# Altium footprint library Footprints.PcbLib: 26 footprints (part 1 of 2)
Each footprint in its own frame and in the unit in brackets; x right, y up, seen from the top. Pads: shape width x height; smd on the part's side, far side on the other; paste and mask are expansions set on the pad; w line width, h text height; cw(c..) or ccw(c..) is an arc to the next point about the centre after c.
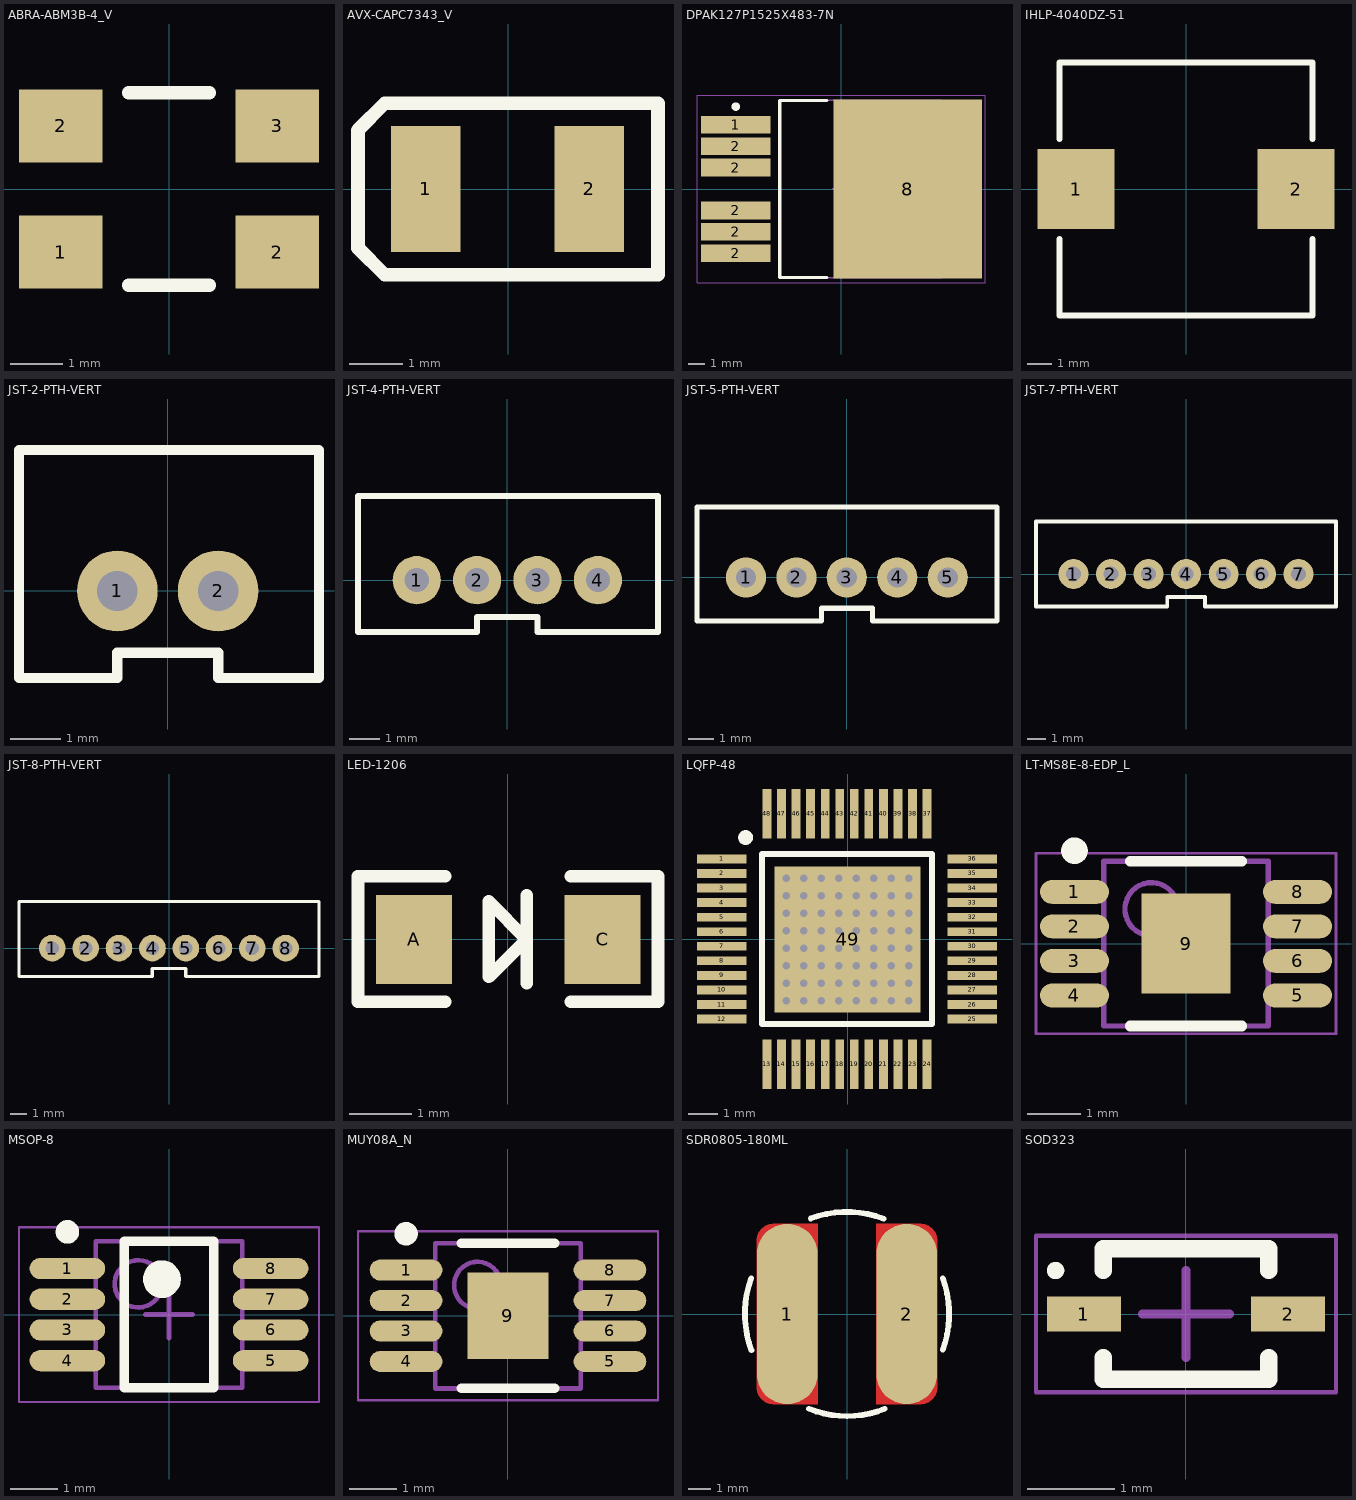
[diagram p0: the footprints below, top view; thin cyan lines are the x and y axes]

## ABRA-ABM3B-4_V [mil] "SMT Crystal, 4-Leads, Body 5.2x3.4mm"
pads (4):
  rect 63x55 smd: 1(-81.5,-47.5) 2(-81.5,47.5) 2(81.5,-47.5) 3(81.5,47.5)
Top Overlay:
  lines w10: -30.5,-72.5 30.5,-72.5 ; -30.5,72.5 30.5,72.5
3D body: height 39.37, standoff 0, extent -114.46,-46.87 113.11,46.73
3D body: height 19.68, standoff 0, extent -97.83,24.91 -62.28,51.12
3D body: height 19.68, standoff 0, extent 67.17,24.91 102.72,51.12
3D body: height 19.68, standoff 0, extent -103.01,-51.67 -67.46,-25.46
3D body: height 19.68, standoff 0, extent 62.19,-52.22 97.74,-26.01

## AVX-CAPC7343_V [mm] "SMT Capacitor, 2 Leads, Body 7.3x4.3mm"
pads (2):
  rect 1.3x2.35 smd: 1(-1.535,0.001) 2(1.515,0.001)
Top Overlay:
  lines w0.254: -2.8,-1.1 -2.8,1.1 -2.299,1.601 2.8,1.597 2.8,-1.6 -2.3,-1.6 -2.8,-1.1
3D body: height 1.9, standoff 0, extent -2.1,-1.1 2.1,1.1

## DPAK127P1525X483-7N [mm] "D2-PAK, 7-Pads, Body 7.93x8.63mm (max), IPC Medium Density"
height 4.83
pads (7):
  rect 4.15x1.05 smd mask+0.051: 1(-6.25,3.81) 2(-6.25,-3.81) 2(-6.25,-2.54) 2(-6.25,-1.27) 2(-6.25,1.27) 2(-6.25,2.54)
  rect 8.8x10.6 smd: 8(3.95,0)
Top Overlay:
  circle w0.25: c-6.25,4.885 r0.125
  lines w0.2: -0.85,-5.25 -3.65,-5.25 -3.65,5.25 -0.85,5.25
Mechanical 13:
  lines w0.1: -3.65,-5.275 -3.65,5.275 6,5.275 6,-5.275 -3.65,-5.275
Mechanical 15:
  lines w0.05: -8.55,-5.55 -8.55,5.55 8.55,5.55 8.55,-5.55 -8.55,-5.55
  lines w0.1: -0.5,0 0.5,0 ; 0,-0.5 0,0.5
3D body: height 4.2, standoff 0, extent -7.004,-5 8,5

## IHLP-4040DZ-51 [mil]
pads (2):
  rect 123x128 smd: 1(-176,0) 2(176,0)
Top Overlay:
  lines w10: -202.5,-80 -202.5,-202.5 202.5,-202.5 202.5,-80 ; -202.5,80 -202.5,202.5 202.5,202.5 202.5,80
3D body: height 157.48, standoff 0, extent -200,-200 200,200

## JST-2-PTH-VERT [mm]
pads (2):
  round 1.6 hole 0.8: 1(-1,0) 2(1,0)
Top Overlay:
  lines w0.203: -2.95,-1.723 -2.95,2.794 3,2.794 3,-1.723 1,-1.723 1,-1.223 -1,-1.223 -1,-1.723 -2.95,-1.723
3D body: height 6, standoff -3.4, extent -2.892,-1.622 3.008,2.878

## JST-4-PTH-VERT [mil]
pads (4):
  round 63 hole 31.5: 1(-118.11,0) 2(-39.37,0) 3(39.37,0) 4(118.37,0)
Top Overlay:
  lines w8: -194.88,-67.84 -194.88,110 196.85,110 196.85,-67.84 39.37,-67.84 39.37,-48.16 -39.37,-48.16 -39.37,-67.84 -194.88,-67.84
3D body: height 236.22, standoff -133.86, extent -194.88,-66.93 194.88,110.24

## JST-5-PTH-VERT [mil]
pads (5):
  round 63 hole 31.5: 1(-157.48,0) 2(-78.74,0) 3(0,0) 4(79,0) 5(158,0)
Top Overlay:
  lines w8: -234.25,-67.84 -39.37,-67.84 -39.37,-48.16 40,-48.16 40,-67.84 235,-67.84 235,110 -234.25,110 -234.25,-67.84
3D body: height 236.22, standoff -133.86, extent -236.22,-68.9 232.28,108.27

## JST-7-PTH-VERT [mil]
pads (7):
  round 63 hole 31.5: 1(-236.22,0) 2(-157.48,0) 3(-78.74,0) 4(0.26,0) 5(79.26,0) 6(157.48,0) 7(236.22,0)
Top Overlay:
  lines w8: -314.96,-67.84 -39.37,-67.84 -39.37,-48.16 40,-48.16 40,-67.84 314.96,-67.84 314.96,110 -314.96,110 -314.96,-67.84
3D body: height 236.22, standoff -133.86, extent -316.93,-66.93 309.06,110.24

## JST-8-PTH-VERT [mil]
pads (8):
  round 63 hole 31.5: 1(-275.59,0) 2(-196.85,0) 3(-118.11,0) 4(-39.11,0) 5(39.89,0) 6(118.11,0) 7(196.85,0) 8(275.59,0)
Top Overlay:
  lines w8: -354.33,-66.93 -354.33,110 354.33,110 354.33,-66.93 39.37,-66.93 39.37,-48.16 -39.37,-48.16 -39.37,-66.93 -354.33,-66.93
3D body: height 236.22, standoff -133.86, extent -352.36,-67.16 352.36,110

## LED-1206 [mil]
pads (2):
  rect 48x56 smd: A(-59.06,0) C(60,0)
Top Overlay:
  lines w8: -39.37,-39.37 -94.49,-39.37 -94.49,40 -39.37,40 ; 12,-27.56 12,0 ; 12,28 12,0 ; 40,-39.37 95,-39.37 95,40 40,40 ; 12,0 -11.81,-23.62 -11.81,24 12,0
3D body: height 43.31, standoff -0.39, extent -62.99,-31.5 62.99,31.49

## LQFP-48 [mm]
pads (49):
  rect 1.7x0.3 smd mask+0.076: 1(-4.318,2.767) 2(-4.318,2.267) 3(-4.318,1.767) 4(-4.318,1.267) 5(-4.318,0.767) 6(-4.318,0.267) 7(-4.318,-0.233) 8(-4.318,-0.733) 9(-4.318,-1.233) 10(-4.318,-1.733) 11(-4.318,-2.233) 12(-4.318,-2.733) 25(4.282,-2.733) 26(4.282,-2.233) 27(4.282,-1.733) 28(4.282,-1.233) 29(4.282,-0.733) 30(4.282,-0.233) 31(4.282,0.267) 32(4.282,0.767) 33(4.282,1.267) 34(4.282,1.767) 35(4.282,2.267) 36(4.282,2.767)
  rect 0.3x1.7 smd mask+0.076: 13(-2.768,-4.283) 14(-2.268,-4.283) 15(-1.768,-4.283) 16(-1.268,-4.283) 17(-0.768,-4.283) 18(-0.268,-4.283) 19(0.232,-4.283) 20(0.732,-4.283) 21(1.232,-4.283) 22(1.732,-4.283) 23(2.232,-4.283) 24(2.732,-4.283) 37(2.732,4.317) 38(2.232,4.317) 39(1.732,4.317) 40(1.232,4.317) 41(0.732,4.317) 42(0.232,4.317) 43(-0.268,4.317) 44(-0.768,4.317) 45(-1.268,4.317) 46(-1.768,4.317) 47(-2.268,4.317) 48(-2.768,4.317)
  rect 5x5 smd: 49(0,0)
via -2.1,-2.1 diameter 0.508 hole 0.254
via -1.5,-2.1 diameter 0.508 hole 0.254
via -0.9,-2.1 diameter 0.508 hole 0.254
via -0.3,-2.1 diameter 0.508 hole 0.254
via 0.3,-2.1 diameter 0.508 hole 0.254
via 0.9,-2.1 diameter 0.508 hole 0.254
via 1.5,-2.1 diameter 0.508 hole 0.254
via 2.1,-2.1 diameter 0.508 hole 0.254
via -2.1,-1.5 diameter 0.508 hole 0.254
via -1.5,-1.5 diameter 0.508 hole 0.254
via -0.9,-1.5 diameter 0.508 hole 0.254
via -0.3,-1.5 diameter 0.508 hole 0.254
via 0.3,-1.5 diameter 0.508 hole 0.254
via 0.9,-1.5 diameter 0.508 hole 0.254
via 1.5,-1.5 diameter 0.508 hole 0.254
via 2.1,-1.5 diameter 0.508 hole 0.254
via -2.1,-0.9 diameter 0.508 hole 0.254
via -1.5,-0.9 diameter 0.508 hole 0.254
via -0.9,-0.9 diameter 0.508 hole 0.254
via -0.3,-0.9 diameter 0.508 hole 0.254
via 0.3,-0.9 diameter 0.508 hole 0.254
via 0.9,-0.9 diameter 0.508 hole 0.254
via 1.5,-0.9 diameter 0.508 hole 0.254
via 2.1,-0.9 diameter 0.508 hole 0.254
via -2.1,-0.3 diameter 0.508 hole 0.254
via -1.5,-0.3 diameter 0.508 hole 0.254
via -0.9,-0.3 diameter 0.508 hole 0.254
via -0.3,-0.3 diameter 0.508 hole 0.254
via 0.3,-0.3 diameter 0.508 hole 0.254
via 0.9,-0.3 diameter 0.508 hole 0.254
via 1.5,-0.3 diameter 0.508 hole 0.254
via 2.1,-0.3 diameter 0.508 hole 0.254
via -2.1,0.3 diameter 0.508 hole 0.254
via -1.5,0.3 diameter 0.508 hole 0.254
via -0.9,0.3 diameter 0.508 hole 0.254
via -0.3,0.3 diameter 0.508 hole 0.254
via 0.3,0.3 diameter 0.508 hole 0.254
via 0.9,0.3 diameter 0.508 hole 0.254
via 1.5,0.3 diameter 0.508 hole 0.254
via 2.1,0.3 diameter 0.508 hole 0.254
via -2.1,0.9 diameter 0.508 hole 0.254
via -1.5,0.9 diameter 0.508 hole 0.254
via -0.9,0.9 diameter 0.508 hole 0.254
via -0.3,0.9 diameter 0.508 hole 0.254
via 0.3,0.9 diameter 0.508 hole 0.254
via 0.9,0.9 diameter 0.508 hole 0.254
via 1.5,0.9 diameter 0.508 hole 0.254
via 2.1,0.9 diameter 0.508 hole 0.254
via -2.1,1.5 diameter 0.508 hole 0.254
via -1.5,1.5 diameter 0.508 hole 0.254
via -0.9,1.5 diameter 0.508 hole 0.254
via -0.3,1.5 diameter 0.508 hole 0.254
via 0.3,1.5 diameter 0.508 hole 0.254
via 0.9,1.5 diameter 0.508 hole 0.254
via 1.5,1.5 diameter 0.508 hole 0.254
via 2.1,1.5 diameter 0.508 hole 0.254
via 2.1,2.1 diameter 0.508 hole 0.254
via 1.5,2.1 diameter 0.508 hole 0.254
via 0.9,2.1 diameter 0.508 hole 0.254
via 0.3,2.1 diameter 0.508 hole 0.254
via -0.3,2.1 diameter 0.508 hole 0.254
via -0.9,2.1 diameter 0.508 hole 0.254
via -1.5,2.1 diameter 0.508 hole 0.254
via -2.1,2.1 diameter 0.508 hole 0.254
Top Overlay:
  circle w0.254: c-3.5,3.5 r0.127
  lines w0.2: -2.933,-2.898 2.897,-2.898 2.897,2.932 -2.933,2.932 -2.933,-2.898
3D body: height 1.5, standoff 0, extent -4.5,-4.5 4.5,4.5

## LT-MS8E-8-EDP_L [mm] "SOP, 8-Leads, Body 3.1x3.1mm, Pitch 0.65mm, Thermal Pad 1.88x1.68mm, IPC High Density"
height 1.1
pads (9):
  oval 1.3x0.45 smd: 1(-2.1,0.975) 2(-2.1,0.325) 3(-2.1,-0.325) 4(-2.1,-0.975) 5(2.1,-0.975) 6(2.1,-0.325) 7(2.1,0.325) 8(2.1,0.975)
  rect 1.68x1.88 smd: 9(0,0)
Top Overlay:
  circle w0.25: c-2.1,1.75 r0.125
  lines w0.2: -1.05,-1.55 1.05,-1.55 ; -1.05,1.55 1.05,1.55
Mechanical 13:
  circle w0.1: c-0.65,0.65 r0.5
  lines w0.1: -1.55,-1.55 -1.55,1.55 1.55,1.55 1.55,-1.55 -1.55,-1.55
Mechanical 15:
  lines w0.05: -2.825,-1.7 -2.825,1.7 2.825,1.7 2.825,-1.7 -2.825,-1.7
  lines w0.1: -0.5,0 0.5,0 ; 0,-0.5 0,0.5
3D body: height 1.1, standoff 0.05, extent -1.55,-1.55 1.55,1.55

## MSOP-8 [mm] "SOP, 8-Leads, Body 3x3mm, Pitch 0.65mm, IPC Medium Density"
pads (8):
  oval 1.6x0.45 smd: 1(-2.15,0.975) 2(-2.15,0.325) 3(-2.15,-0.325) 4(-2.15,-0.975) 5(2.15,-0.975) 6(2.15,-0.325) 7(2.15,0.325) 8(2.15,0.975)
Top Overlay:
  circle w0.4: c-0.15,0.75 r0.2
  circle w0.25: c-2.15,1.75 r0.125
  lines w0.2: -0.95,-1.55 0.95,-1.55 0.95,1.55 -0.95,1.55 -0.95,-1.55
Mechanical 13:
  circle w0.1: c-0.65,0.65 r0.5
  lines w0.1: -1.55,-1.55 1.55,-1.55 1.55,1.55 -1.55,1.55 -1.55,-1.55
Mechanical 15:
  lines w0.05: -3.175,-1.85 3.175,-1.85 3.175,1.85 -3.175,1.85 -3.175,-1.85
  lines w0.1: -0.5,0 0.5,0 ; 0,-0.5 0,0.5
3D body: height 0.05, standoff 0, extent -1.55,-1.55 1.55,1.55

## MUY08A_N [mm] "TSOP, 8-Leads, Body 3x3mm, Pitch 0.65mm, Thermal Pad, IPC Medium Density"
height 1.09
pads (9):
  oval 1.55x0.45 smd: 1(-2.175,0.975) 2(-2.175,0.325) 3(-2.175,-0.325) 4(-2.175,-0.975) 5(2.175,-0.975) 6(2.175,-0.325) 7(2.175,0.325) 8(2.175,0.975)
  rect 1.73x1.85 smd: 9(0,0)
Top Overlay:
  circle w0.25: c-2.175,1.75 r0.125
  lines w0.2: -1,-1.55 1,-1.55 ; -1,1.55 1,1.55
Mechanical 13:
  circle w0.1: c-0.65,0.65 r0.5
  lines w0.1: -1.55,-1.55 -1.55,1.55 1.55,1.55 1.55,-1.55 -1.55,-1.55
Mechanical 15:
  lines w0.05: -3.2,-1.8 -3.2,1.8 3.2,1.8 3.2,-1.8 -3.2,-1.8
  lines w0.1: -0.5,0 0.5,0 ; 0,-0.5 0,0.5
3D body: height 1.09, standoff 0.06, extent -1.55,-1.55 1.55,1.55

## SDR0805-180ML [mm]
pads (2):
  rrect100% 2.7x8 smd: 1(-2.65,0) 2(2.65,0)
Top Layer:
  region: -3.25,4 -1.3,4 -1.3,-4 -3.25,-4 -3.299,-4 -3.446,-3.981 -3.628,-3.905 -3.785,-3.785 -3.905,-3.628 -3.981,-3.446 -4,-3.299 -4,-3.25 -4,3.25 -4,3.299 -3.981,3.446 -3.905,3.628 -3.785,3.785 -3.628,3.905 -3.446,3.981 -3.299,4
  region: 3.25,4 1.3,4 1.3,-4 3.25,-4 3.299,-4 3.446,-3.981 3.628,-3.905 3.785,-3.785 3.905,-3.628 3.981,-3.446 4,-3.299 4,-3.25 4,3.25 4,3.299 3.981,3.446 3.905,3.628 3.785,3.785 3.628,3.905 3.446,3.981 3.299,4
Top Overlay:
  lines w0.254: -4.24,1.59 ccw(c0,0) -4.235,-1.603 ; -1.682,-4.204 ccw(c0,0) 1.676,-4.206 ; -1.603,4.235 cw(c0,0) 1.625,4.226 ; 4.239,-1.59 ccw(c0,0) 4.239,1.59
3D body: height 5.3, standoff 0, extent -3.9,-3.9 3.9,3.9

## SOD323 [mm] "SODFL, 2-Leads, Body 1.30x2.57mm, IPC Medium Density"
height 1.14
pads (2):
  rect 0.85x0.4 smd: 1(-1.175,0) 2(1.175,0)
Top Overlay:
  circle w0.1: c-1.5,0.5 r0.05
  lines w0.2: -0.95,-0.5 -0.95,-0.75 0.95,-0.75 0.95,-0.5 ; -0.95,0.5 -0.95,0.75 0.95,0.75 0.95,0.5
Mechanical 15:
  lines w0.05: -1.725,-0.9 1.725,-0.9 1.725,0.9 -1.725,0.9 -1.725,-0.9
  lines w0.1: -0.5,0 0.5,0 ; 0,-0.5 0,0.5
3D body: height 1.14, standoff 0, extent -0.95,-0.725 0.95,0.725